# Altium footprint library AM6411AKCGHAALV.PcbLib: 3 footprints
Each footprint in its own frame and in the unit in brackets; x right, y up, seen from the top. Pads: shape width x height; smd on the part's side, far side on the other; paste and mask are expansions set on the pad; w line width, h text height; cw(c..) or ccw(c..) is an arc to the next point about the centre after c.
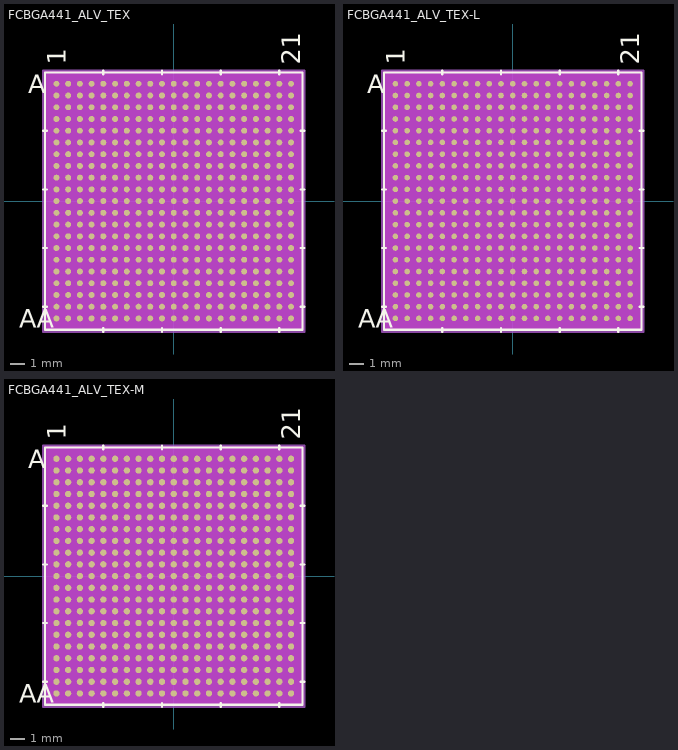
[diagram p0: the footprints below, top view; thin cyan lines are the x and y axes]

## FCBGA441_ALV_TEX [mil]
pads (441):
  round 16 smd paste+0 mask+0: A1(-315,315) A2(-283.5,315) A3(-252,315) A4(-220.5,315) A5(-189,315) A6(-157.5,315) A7(-126,315) A8(-94.5,315) A9(-63,315) A10(-31.5,315) A11(0,315) A12(31.5,315) A13(63,315) A14(94.5,315) A15(126,315) A16(157.5,315) A17(189,315) A18(220.5,315) A19(252,315) A20(283.5,315) A21(315,315) AA1(-315,-315) AA2(-283.5,-315) AA3(-252,-315) AA4(-220.5,-315) AA5(-189,-315) AA6(-157.5,-315) AA7(-126,-315) AA8(-94.5,-315) AA9(-63,-315) AA10(-31.5,-315) AA11(0,-315) AA12(31.5,-315) AA13(63,-315) AA14(94.5,-315) AA15(126,-315) AA16(157.5,-315) AA17(189,-315) AA18(220.5,-315) AA19(252,-315) AA20(283.5,-315) AA21(315,-315) B1(-315,283.5) B2(-283.5,283.5) B3(-252,283.5) B4(-220.5,283.5) B5(-189,283.5) B6(-157.5,283.5) B7(-126,283.5) B8(-94.5,283.5) B9(-63,283.5) B10(-31.5,283.5) B11(0,283.5) B12(31.5,283.5) B13(63,283.5) B14(94.5,283.5) B15(126,283.5) B16(157.5,283.5) B17(189,283.5) B18(220.5,283.5) B19(252,283.5) B20(283.5,283.5) B21(315,283.5) C1(-315,252) C2(-283.5,252) C3(-252,252) C4(-220.5,252) C5(-189,252) C6(-157.5,252) C7(-126,252) C8(-94.5,252) C9(-63,252) C10(-31.5,252) C11(0,252) C12(31.5,252) C13(63,252) C14(94.5,252) C15(126,252) C16(157.5,252) C17(189,252) C18(220.5,252) C19(252,252) C20(283.5,252) C21(315,252) D1(-315,220.5) D2(-283.5,220.5) D3(-252,220.5) D4(-220.5,220.5) D5(-189,220.5) D6(-157.5,220.5) D7(-126,220.5) D8(-94.5,220.5) D9(-63,220.5) D10(-31.5,220.5) D11(0,220.5) D12(31.5,220.5) D13(63,220.5) D14(94.5,220.5) D15(126,220.5) D16(157.5,220.5) D17(189,220.5) D18(220.5,220.5) D19(252,220.5) D20(283.5,220.5) D21(315,220.5) E1(-315,189) E2(-283.5,189) E3(-252,189) E4(-220.5,189) E5(-189,189) E6(-157.5,189) E7(-126,189) E8(-94.5,189) E9(-63,189) E10(-31.5,189) E11(0,189) E12(31.5,189) E13(63,189) E14(94.5,189) E15(126,189) E16(157.5,189) E17(189,189) E18(220.5,189) E19(252,189) E20(283.5,189) E21(315,189) F1(-315,157.5) F2(-283.5,157.5) F3(-252,157.5) F4(-220.5,157.5) F5(-189,157.5) F6(-157.5,157.5) F7(-126,157.5) F8(-94.5,157.5) F9(-63,157.5) F10(-31.5,157.5) F11(0,157.5) F12(31.5,157.5) F13(63,157.5) F14(94.5,157.5) F15(126,157.5) F16(157.5,157.5) F17(189,157.5) F18(220.5,157.5) F19(252,157.5) F20(283.5,157.5) F21(315,157.5) G1(-315,126) G2(-283.5,126) G3(-252,126) G4(-220.5,126) G5(-189,126) G6(-157.5,126) G7(-126,126) G8(-94.5,126) G9(-63,126) G10(-31.5,126) G11(0,126) G12(31.5,126) G13(63,126) G14(94.5,126) G15(126,126) G16(157.5,126) G17(189,126) G18(220.5,126) G19(252,126) G20(283.5,126) G21(315,126) H1(-315,94.5) H2(-283.5,94.5) H3(-252,94.5) H4(-220.5,94.5) H5(-189,94.5) H6(-157.5,94.5) H7(-126,94.5) H8(-94.5,94.5) H9(-63,94.5) H10(-31.5,94.5) H11(0,94.5) H12(31.5,94.5) H13(63,94.5) H14(94.5,94.5) H15(126,94.5) H16(157.5,94.5) H17(189,94.5) H18(220.5,94.5) H19(252,94.5) H20(283.5,94.5) H21(315,94.5) J1(-315,63) J2(-283.5,63) J3(-252,63) J4(-220.5,63) J5(-189,63) J6(-157.5,63) J7(-126,63) J8(-94.5,63) J9(-63,63) J10(-31.5,63) J11(0,63) J12(31.5,63) J13(63,63) J14(94.5,63) J15(126,63) J16(157.5,63) J17(189,63) J18(220.5,63) J19(252,63) J20(283.5,63) J21(315,63) K1(-315,31.5) K2(-283.5,31.5) K3(-252,31.5) K4(-220.5,31.5) K5(-189,31.5) K6(-157.5,31.5) K7(-126,31.5) K8(-94.5,31.5) K9(-63,31.5) K10(-31.5,31.5) K11(0,31.5) K12(31.5,31.5) K13(63,31.5) K14(94.5,31.5) K15(126,31.5) K16(157.5,31.5) K17(189,31.5) K18(220.5,31.5) K19(252,31.5) K20(283.5,31.5) K21(315,31.5) L1(-315,0) L2(-283.5,0) L3(-252,0) L4(-220.5,0) L5(-189,0) L6(-157.5,0) L7(-126,0) L8(-94.5,0) L9(-63,0) L10(-31.5,0) L11(0,0) L12(31.5,0) L13(63,0) L14(94.5,0) L15(126,0) L16(157.5,0) L17(189,0) L18(220.5,0) L19(252,0) L20(283.5,0) L21(315,0) M1(-315,-31.5) M2(-283.5,-31.5) M3(-252,-31.5) M4(-220.5,-31.5) M5(-189,-31.5) M6(-157.5,-31.5) M7(-126,-31.5) M8(-94.5,-31.5) M9(-63,-31.5) M10(-31.5,-31.5) M11(0,-31.5) M12(31.5,-31.5) M13(63,-31.5) M14(94.5,-31.5) M15(126,-31.5) M16(157.5,-31.5) M17(189,-31.5) M18(220.5,-31.5) M19(252,-31.5) M20(283.5,-31.5) M21(315,-31.5) N1(-315,-63) N2(-283.5,-63) N3(-252,-63) N4(-220.5,-63) N5(-189,-63) N6(-157.5,-63) N7(-126,-63) N8(-94.5,-63) N9(-63,-63) N10(-31.5,-63) N11(0,-63) N12(31.5,-63) N13(63,-63) N14(94.5,-63) N15(126,-63) N16(157.5,-63) N17(189,-63) N18(220.5,-63) N19(252,-63) N20(283.5,-63) N21(315,-63) P1(-315,-94.5) P2(-283.5,-94.5) P3(-252,-94.5) P4(-220.5,-94.5) P5(-189,-94.5) P6(-157.5,-94.5) P7(-126,-94.5) P8(-94.5,-94.5) P9(-63,-94.5) P10(-31.5,-94.5) P11(0,-94.5) P12(31.5,-94.5) P13(63,-94.5) P14(94.5,-94.5) P15(126,-94.5) P16(157.5,-94.5) P17(189,-94.5) P18(220.5,-94.5) P19(252,-94.5) P20(283.5,-94.5) P21(315,-94.5) R1(-315,-126) R2(-283.5,-126) R3(-252,-126) R4(-220.5,-126) R5(-189,-126) R6(-157.5,-126) R7(-126,-126) R8(-94.5,-126) R9(-63,-126) R10(-31.5,-126) R11(0,-126) R12(31.5,-126) R13(63,-126) R14(94.5,-126) R15(126,-126) R16(157.5,-126) R17(189,-126) R18(220.5,-126) R19(252,-126) R20(283.5,-126) R21(315,-126) T1(-315,-157.5) T2(-283.5,-157.5) T3(-252,-157.5) T4(-220.5,-157.5) T5(-189,-157.5) T6(-157.5,-157.5) T7(-126,-157.5) T8(-94.5,-157.5) T9(-63,-157.5) T10(-31.5,-157.5) T11(0,-157.5) T12(31.5,-157.5) T13(63,-157.5) T14(94.5,-157.5) T15(126,-157.5) T16(157.5,-157.5) T17(189,-157.5) T18(220.5,-157.5) T19(252,-157.5) T20(283.5,-157.5) T21(315,-157.5) U1(-315,-189) U2(-283.5,-189) U3(-252,-189) U4(-220.5,-189) U5(-189,-189) U6(-157.5,-189) U7(-126,-189) U8(-94.5,-189) U9(-63,-189) U10(-31.5,-189) U11(0,-189) U12(31.5,-189) U13(63,-189) U14(94.5,-189) U15(126,-189) U16(157.5,-189) U17(189,-189) U18(220.5,-189) U19(252,-189) U20(283.5,-189) U21(315,-189) V1(-315,-220.5) V2(-283.5,-220.5) V3(-252,-220.5) V4(-220.5,-220.5) V5(-189,-220.5) V6(-157.5,-220.5) V7(-126,-220.5) V8(-94.5,-220.5) V9(-63,-220.5) V10(-31.5,-220.5) V11(0,-220.5) V12(31.5,-220.5) V13(63,-220.5) V14(94.5,-220.5) V15(126,-220.5) V16(157.5,-220.5) V17(189,-220.5) V18(220.5,-220.5) V19(252,-220.5) V20(283.5,-220.5) V21(315,-220.5) W1(-315,-252) W2(-283.5,-252) W3(-252,-252) W4(-220.5,-252) W5(-189,-252) W6(-157.5,-252) W7(-126,-252) W8(-94.5,-252) W9(-63,-252) W10(-31.5,-252) W11(0,-252) W12(31.5,-252) W13(63,-252) W14(94.5,-252) W15(126,-252) W16(157.5,-252) W17(189,-252) W18(220.5,-252) W19(252,-252) W20(283.5,-252) W21(315,-252) Y1(-315,-283.5) Y2(-283.5,-283.5) Y3(-252,-283.5) Y4(-220.5,-283.5) Y5(-189,-283.5) Y6(-157.5,-283.5) Y7(-126,-283.5) Y8(-94.5,-283.5) Y9(-63,-283.5) Y10(-31.5,-283.5) Y11(0,-283.5) Y12(31.5,-283.5) Y13(63,-283.5) Y14(94.5,-283.5) Y15(126,-283.5) Y16(157.5,-283.5) Y17(189,-283.5) Y18(220.5,-283.5) Y19(252,-283.5) Y20(283.5,-283.5) Y21(315,-283.5)
Top Overlay:
  lines w6: -350.5,-283.5 -340.5,-283.5 ; -350.5,-126 -340.5,-126 ; -350.5,31.5 -340.5,31.5 ; -350.5,189 -340.5,189 ; -189,-350.5 -189,-340.5 ; -189,340.5 -189,350.5 ; -31.5,-350.5 -31.5,-340.5 ; -31.5,340.5 -31.5,350.5 ; 126,-350.5 126,-340.5 ; 126,340.5 126,350.5 ; 283.5,-350.5 283.5,-340.5 ; 283.5,340.5 283.5,350.5 ; 340.5,-283.5 350.5,-283.5 ; 340.5,-126 350.5,-126 ; 340.5,31.5 350.5,31.5 ; 340.5,189 350.5,189 ; -345.5,-345.5 345.5,-345.5 345.5,345.5 -345.5,345.5 -345.5,-345.5
  text "A" at -390.5,290 h50
  text "AA" at -415.5,-340 h50
  text "1" at -290,365.5 h50
  text "21" at 340,365.5 h50
Bottom Overlay:
  text "A" at -365.5,290 h50
  text "AA" at -365.5,-340 h50
  text "1" at -340,365.5 h50
  text "21" at 290,365.5 h50
Keep-Out Layer:
  region: -348.25,-348.25 -348.25,348.25 348.25,348.25 348.25,-348.25
Mechanical 13:
  lines w1: -340.5,324.75 -324.75,340.5 ; -340.5,-340.5 340.5,-340.5 340.5,340.5 -340.5,340.5 -340.5,-340.5
  text "A" at -390.5,290 h50
  text "AA" at -415.5,-340 h50
  text "1" at -290,365.5 h50
  text "21" at 340,365.5 h50
Mechanical 15:
  region: 350.5,-350.5 -350.5,-350.5 -350.5,350.5 350.5,350.5
  lines w6: -350.5,-350.5 -350.5,350.5 350.5,350.5 350.5,-350.5 -350.5,-350.5
3D body "FCBGA441_ALV_TEX.step": height 104.09, standoff 0, extent -340.51,-340.51 340.51,340.51

## FCBGA441_ALV_TEX-L [mil]
pads (441):
  round 15 smd paste+0 mask+0: A1(-315,315) A2(-283.5,315) A3(-252,315) A4(-220.5,315) A5(-189,315) A6(-157.5,315) A7(-126,315) A8(-94.5,315) A9(-63,315) A10(-31.5,315) A11(0,315) A12(31.5,315) A13(63,315) A14(94.5,315) A15(126,315) A16(157.5,315) A17(189,315) A18(220.5,315) A19(252,315) A20(283.5,315) A21(315,315) AA1(-315,-315) AA2(-283.5,-315) AA3(-252,-315) AA4(-220.5,-315) AA5(-189,-315) AA6(-157.5,-315) AA7(-126,-315) AA8(-94.5,-315) AA9(-63,-315) AA10(-31.5,-315) AA11(0,-315) AA12(31.5,-315) AA13(63,-315) AA14(94.5,-315) AA15(126,-315) AA16(157.5,-315) AA17(189,-315) AA18(220.5,-315) AA19(252,-315) AA20(283.5,-315) AA21(315,-315) B1(-315,283.5) B2(-283.5,283.5) B3(-252,283.5) B4(-220.5,283.5) B5(-189,283.5) B6(-157.5,283.5) B7(-126,283.5) B8(-94.5,283.5) B9(-63,283.5) B10(-31.5,283.5) B11(0,283.5) B12(31.5,283.5) B13(63,283.5) B14(94.5,283.5) B15(126,283.5) B16(157.5,283.5) B17(189,283.5) B18(220.5,283.5) B19(252,283.5) B20(283.5,283.5) B21(315,283.5) C1(-315,252) C2(-283.5,252) C3(-252,252) C4(-220.5,252) C5(-189,252) C6(-157.5,252) C7(-126,252) C8(-94.5,252) C9(-63,252) C10(-31.5,252) C11(0,252) C12(31.5,252) C13(63,252) C14(94.5,252) C15(126,252) C16(157.5,252) C17(189,252) C18(220.5,252) C19(252,252) C20(283.5,252) C21(315,252) D1(-315,220.5) D2(-283.5,220.5) D3(-252,220.5) D4(-220.5,220.5) D5(-189,220.5) D6(-157.5,220.5) D7(-126,220.5) D8(-94.5,220.5) D9(-63,220.5) D10(-31.5,220.5) D11(0,220.5) D12(31.5,220.5) D13(63,220.5) D14(94.5,220.5) D15(126,220.5) D16(157.5,220.5) D17(189,220.5) D18(220.5,220.5) D19(252,220.5) D20(283.5,220.5) D21(315,220.5) E1(-315,189) E2(-283.5,189) E3(-252,189) E4(-220.5,189) E5(-189,189) E6(-157.5,189) E7(-126,189) E8(-94.5,189) E9(-63,189) E10(-31.5,189) E11(0,189) E12(31.5,189) E13(63,189) E14(94.5,189) E15(126,189) E16(157.5,189) E17(189,189) E18(220.5,189) E19(252,189) E20(283.5,189) E21(315,189) F1(-315,157.5) F2(-283.5,157.5) F3(-252,157.5) F4(-220.5,157.5) F5(-189,157.5) F6(-157.5,157.5) F7(-126,157.5) F8(-94.5,157.5) F9(-63,157.5) F10(-31.5,157.5) F11(0,157.5) F12(31.5,157.5) F13(63,157.5) F14(94.5,157.5) F15(126,157.5) F16(157.5,157.5) F17(189,157.5) F18(220.5,157.5) F19(252,157.5) F20(283.5,157.5) F21(315,157.5) G1(-315,126) G2(-283.5,126) G3(-252,126) G4(-220.5,126) G5(-189,126) G6(-157.5,126) G7(-126,126) G8(-94.5,126) G9(-63,126) G10(-31.5,126) G11(0,126) G12(31.5,126) G13(63,126) G14(94.5,126) G15(126,126) G16(157.5,126) G17(189,126) G18(220.5,126) G19(252,126) G20(283.5,126) G21(315,126) H1(-315,94.5) H2(-283.5,94.5) H3(-252,94.5) H4(-220.5,94.5) H5(-189,94.5) H6(-157.5,94.5) H7(-126,94.5) H8(-94.5,94.5) H9(-63,94.5) H10(-31.5,94.5) H11(0,94.5) H12(31.5,94.5) H13(63,94.5) H14(94.5,94.5) H15(126,94.5) H16(157.5,94.5) H17(189,94.5) H18(220.5,94.5) H19(252,94.5) H20(283.5,94.5) H21(315,94.5) J1(-315,63) J2(-283.5,63) J3(-252,63) J4(-220.5,63) J5(-189,63) J6(-157.5,63) J7(-126,63) J8(-94.5,63) J9(-63,63) J10(-31.5,63) J11(0,63) J12(31.5,63) J13(63,63) J14(94.5,63) J15(126,63) J16(157.5,63) J17(189,63) J18(220.5,63) J19(252,63) J20(283.5,63) J21(315,63) K1(-315,31.5) K2(-283.5,31.5) K3(-252,31.5) K4(-220.5,31.5) K5(-189,31.5) K6(-157.5,31.5) K7(-126,31.5) K8(-94.5,31.5) K9(-63,31.5) K10(-31.5,31.5) K11(0,31.5) K12(31.5,31.5) K13(63,31.5) K14(94.5,31.5) K15(126,31.5) K16(157.5,31.5) K17(189,31.5) K18(220.5,31.5) K19(252,31.5) K20(283.5,31.5) K21(315,31.5) L1(-315,0) L2(-283.5,0) L3(-252,0) L4(-220.5,0) L5(-189,0) L6(-157.5,0) L7(-126,0) L8(-94.5,0) L9(-63,0) L10(-31.5,0) L11(0,0) L12(31.5,0) L13(63,0) L14(94.5,0) L15(126,0) L16(157.5,0) L17(189,0) L18(220.5,0) L19(252,0) L20(283.5,0) L21(315,0) M1(-315,-31.5) M2(-283.5,-31.5) M3(-252,-31.5) M4(-220.5,-31.5) M5(-189,-31.5) M6(-157.5,-31.5) M7(-126,-31.5) M8(-94.5,-31.5) M9(-63,-31.5) M10(-31.5,-31.5) M11(0,-31.5) M12(31.5,-31.5) M13(63,-31.5) M14(94.5,-31.5) M15(126,-31.5) M16(157.5,-31.5) M17(189,-31.5) M18(220.5,-31.5) M19(252,-31.5) M20(283.5,-31.5) M21(315,-31.5) N1(-315,-63) N2(-283.5,-63) N3(-252,-63) N4(-220.5,-63) N5(-189,-63) N6(-157.5,-63) N7(-126,-63) N8(-94.5,-63) N9(-63,-63) N10(-31.5,-63) N11(0,-63) N12(31.5,-63) N13(63,-63) N14(94.5,-63) N15(126,-63) N16(157.5,-63) N17(189,-63) N18(220.5,-63) N19(252,-63) N20(283.5,-63) N21(315,-63) P1(-315,-94.5) P2(-283.5,-94.5) P3(-252,-94.5) P4(-220.5,-94.5) P5(-189,-94.5) P6(-157.5,-94.5) P7(-126,-94.5) P8(-94.5,-94.5) P9(-63,-94.5) P10(-31.5,-94.5) P11(0,-94.5) P12(31.5,-94.5) P13(63,-94.5) P14(94.5,-94.5) P15(126,-94.5) P16(157.5,-94.5) P17(189,-94.5) P18(220.5,-94.5) P19(252,-94.5) P20(283.5,-94.5) P21(315,-94.5) R1(-315,-126) R2(-283.5,-126) R3(-252,-126) R4(-220.5,-126) R5(-189,-126) R6(-157.5,-126) R7(-126,-126) R8(-94.5,-126) R9(-63,-126) R10(-31.5,-126) R11(0,-126) R12(31.5,-126) R13(63,-126) R14(94.5,-126) R15(126,-126) R16(157.5,-126) R17(189,-126) R18(220.5,-126) R19(252,-126) R20(283.5,-126) R21(315,-126) T1(-315,-157.5) T2(-283.5,-157.5) T3(-252,-157.5) T4(-220.5,-157.5) T5(-189,-157.5) T6(-157.5,-157.5) T7(-126,-157.5) T8(-94.5,-157.5) T9(-63,-157.5) T10(-31.5,-157.5) T11(0,-157.5) T12(31.5,-157.5) T13(63,-157.5) T14(94.5,-157.5) T15(126,-157.5) T16(157.5,-157.5) T17(189,-157.5) T18(220.5,-157.5) T19(252,-157.5) T20(283.5,-157.5) T21(315,-157.5) U1(-315,-189) U2(-283.5,-189) U3(-252,-189) U4(-220.5,-189) U5(-189,-189) U6(-157.5,-189) U7(-126,-189) U8(-94.5,-189) U9(-63,-189) U10(-31.5,-189) U11(0,-189) U12(31.5,-189) U13(63,-189) U14(94.5,-189) U15(126,-189) U16(157.5,-189) U17(189,-189) U18(220.5,-189) U19(252,-189) U20(283.5,-189) U21(315,-189) V1(-315,-220.5) V2(-283.5,-220.5) V3(-252,-220.5) V4(-220.5,-220.5) V5(-189,-220.5) V6(-157.5,-220.5) V7(-126,-220.5) V8(-94.5,-220.5) V9(-63,-220.5) V10(-31.5,-220.5) V11(0,-220.5) V12(31.5,-220.5) V13(63,-220.5) V14(94.5,-220.5) V15(126,-220.5) V16(157.5,-220.5) V17(189,-220.5) V18(220.5,-220.5) V19(252,-220.5) V20(283.5,-220.5) V21(315,-220.5) W1(-315,-252) W2(-283.5,-252) W3(-252,-252) W4(-220.5,-252) W5(-189,-252) W6(-157.5,-252) W7(-126,-252) W8(-94.5,-252) W9(-63,-252) W10(-31.5,-252) W11(0,-252) W12(31.5,-252) W13(63,-252) W14(94.5,-252) W15(126,-252) W16(157.5,-252) W17(189,-252) W18(220.5,-252) W19(252,-252) W20(283.5,-252) W21(315,-252) Y1(-315,-283.5) Y2(-283.5,-283.5) Y3(-252,-283.5) Y4(-220.5,-283.5) Y5(-189,-283.5) Y6(-157.5,-283.5) Y7(-126,-283.5) Y8(-94.5,-283.5) Y9(-63,-283.5) Y10(-31.5,-283.5) Y11(0,-283.5) Y12(31.5,-283.5) Y13(63,-283.5) Y14(94.5,-283.5) Y15(126,-283.5) Y16(157.5,-283.5) Y17(189,-283.5) Y18(220.5,-283.5) Y19(252,-283.5) Y20(283.5,-283.5) Y21(315,-283.5)
Top Overlay:
  lines w6: -350.5,-283.5 -340.5,-283.5 ; -350.5,-126 -340.5,-126 ; -350.5,31.5 -340.5,31.5 ; -350.5,189 -340.5,189 ; -189,-350.5 -189,-340.5 ; -189,340.5 -189,350.5 ; -31.5,-350.5 -31.5,-340.5 ; -31.5,340.5 -31.5,350.5 ; 126,-350.5 126,-340.5 ; 126,340.5 126,350.5 ; 283.5,-350.5 283.5,-340.5 ; 283.5,340.5 283.5,350.5 ; 340.5,-283.5 350.5,-283.5 ; 340.5,-126 350.5,-126 ; 340.5,31.5 350.5,31.5 ; 340.5,189 350.5,189 ; -345.5,-345.5 345.5,-345.5 345.5,345.5 -345.5,345.5 -345.5,-345.5
  text "A" at -390.5,290 h50
  text "AA" at -415.5,-340 h50
  text "1" at -290,365.5 h50
  text "21" at 340,365.5 h50
Bottom Overlay:
  text "A" at -365.5,290 h50
  text "AA" at -365.5,-340 h50
  text "1" at -340,365.5 h50
  text "21" at 290,365.5 h50
Keep-Out Layer:
  region: -348.25,-348.25 -348.25,348.25 348.25,348.25 348.25,-348.25
Mechanical 13:
  lines w1: -340.5,324.75 -324.75,340.5 ; -340.5,-340.5 340.5,-340.5 340.5,340.5 -340.5,340.5 -340.5,-340.5
  text "A" at -390.5,290 h50
  text "AA" at -415.5,-340 h50
  text "1" at -290,365.5 h50
  text "21" at 340,365.5 h50
Mechanical 15:
  region: 350.5,-350.5 -350.5,-350.5 -350.5,350.5 350.5,350.5
  lines w6: -350.5,-350.5 -350.5,350.5 350.5,350.5 350.5,-350.5 -350.5,-350.5
3D body "FCBGA441_ALV_TEX.step": height 104.09, standoff 0, extent -340.51,-340.51 340.51,340.51

## FCBGA441_ALV_TEX-M [mil]
pads (441):
  round 17 smd paste+0 mask+0: A1(-315,315) A2(-283.5,315) A3(-252,315) A4(-220.5,315) A5(-189,315) A6(-157.5,315) A7(-126,315) A8(-94.5,315) A9(-63,315) A10(-31.5,315) A11(0,315) A12(31.5,315) A13(63,315) A14(94.5,315) A15(126,315) A16(157.5,315) A17(189,315) A18(220.5,315) A19(252,315) A20(283.5,315) A21(315,315) AA1(-315,-315) AA2(-283.5,-315) AA3(-252,-315) AA4(-220.5,-315) AA5(-189,-315) AA6(-157.5,-315) AA7(-126,-315) AA8(-94.5,-315) AA9(-63,-315) AA10(-31.5,-315) AA11(0,-315) AA12(31.5,-315) AA13(63,-315) AA14(94.5,-315) AA15(126,-315) AA16(157.5,-315) AA17(189,-315) AA18(220.5,-315) AA19(252,-315) AA20(283.5,-315) AA21(315,-315) B1(-315,283.5) B2(-283.5,283.5) B3(-252,283.5) B4(-220.5,283.5) B5(-189,283.5) B6(-157.5,283.5) B7(-126,283.5) B8(-94.5,283.5) B9(-63,283.5) B10(-31.5,283.5) B11(0,283.5) B12(31.5,283.5) B13(63,283.5) B14(94.5,283.5) B15(126,283.5) B16(157.5,283.5) B17(189,283.5) B18(220.5,283.5) B19(252,283.5) B20(283.5,283.5) B21(315,283.5) C1(-315,252) C2(-283.5,252) C3(-252,252) C4(-220.5,252) C5(-189,252) C6(-157.5,252) C7(-126,252) C8(-94.5,252) C9(-63,252) C10(-31.5,252) C11(0,252) C12(31.5,252) C13(63,252) C14(94.5,252) C15(126,252) C16(157.5,252) C17(189,252) C18(220.5,252) C19(252,252) C20(283.5,252) C21(315,252) D1(-315,220.5) D2(-283.5,220.5) D3(-252,220.5) D4(-220.5,220.5) D5(-189,220.5) D6(-157.5,220.5) D7(-126,220.5) D8(-94.5,220.5) D9(-63,220.5) D10(-31.5,220.5) D11(0,220.5) D12(31.5,220.5) D13(63,220.5) D14(94.5,220.5) D15(126,220.5) D16(157.5,220.5) D17(189,220.5) D18(220.5,220.5) D19(252,220.5) D20(283.5,220.5) D21(315,220.5) E1(-315,189) E2(-283.5,189) E3(-252,189) E4(-220.5,189) E5(-189,189) E6(-157.5,189) E7(-126,189) E8(-94.5,189) E9(-63,189) E10(-31.5,189) E11(0,189) E12(31.5,189) E13(63,189) E14(94.5,189) E15(126,189) E16(157.5,189) E17(189,189) E18(220.5,189) E19(252,189) E20(283.5,189) E21(315,189) F1(-315,157.5) F2(-283.5,157.5) F3(-252,157.5) F4(-220.5,157.5) F5(-189,157.5) F6(-157.5,157.5) F7(-126,157.5) F8(-94.5,157.5) F9(-63,157.5) F10(-31.5,157.5) F11(0,157.5) F12(31.5,157.5) F13(63,157.5) F14(94.5,157.5) F15(126,157.5) F16(157.5,157.5) F17(189,157.5) F18(220.5,157.5) F19(252,157.5) F20(283.5,157.5) F21(315,157.5) G1(-315,126) G2(-283.5,126) G3(-252,126) G4(-220.5,126) G5(-189,126) G6(-157.5,126) G7(-126,126) G8(-94.5,126) G9(-63,126) G10(-31.5,126) G11(0,126) G12(31.5,126) G13(63,126) G14(94.5,126) G15(126,126) G16(157.5,126) G17(189,126) G18(220.5,126) G19(252,126) G20(283.5,126) G21(315,126) H1(-315,94.5) H2(-283.5,94.5) H3(-252,94.5) H4(-220.5,94.5) H5(-189,94.5) H6(-157.5,94.5) H7(-126,94.5) H8(-94.5,94.5) H9(-63,94.5) H10(-31.5,94.5) H11(0,94.5) H12(31.5,94.5) H13(63,94.5) H14(94.5,94.5) H15(126,94.5) H16(157.5,94.5) H17(189,94.5) H18(220.5,94.5) H19(252,94.5) H20(283.5,94.5) H21(315,94.5) J1(-315,63) J2(-283.5,63) J3(-252,63) J4(-220.5,63) J5(-189,63) J6(-157.5,63) J7(-126,63) J8(-94.5,63) J9(-63,63) J10(-31.5,63) J11(0,63) J12(31.5,63) J13(63,63) J14(94.5,63) J15(126,63) J16(157.5,63) J17(189,63) J18(220.5,63) J19(252,63) J20(283.5,63) J21(315,63) K1(-315,31.5) K2(-283.5,31.5) K3(-252,31.5) K4(-220.5,31.5) K5(-189,31.5) K6(-157.5,31.5) K7(-126,31.5) K8(-94.5,31.5) K9(-63,31.5) K10(-31.5,31.5) K11(0,31.5) K12(31.5,31.5) K13(63,31.5) K14(94.5,31.5) K15(126,31.5) K16(157.5,31.5) K17(189,31.5) K18(220.5,31.5) K19(252,31.5) K20(283.5,31.5) K21(315,31.5) L1(-315,0) L2(-283.5,0) L3(-252,0) L4(-220.5,0) L5(-189,0) L6(-157.5,0) L7(-126,0) L8(-94.5,0) L9(-63,0) L10(-31.5,0) L11(0,0) L12(31.5,0) L13(63,0) L14(94.5,0) L15(126,0) L16(157.5,0) L17(189,0) L18(220.5,0) L19(252,0) L20(283.5,0) L21(315,0) M1(-315,-31.5) M2(-283.5,-31.5) M3(-252,-31.5) M4(-220.5,-31.5) M5(-189,-31.5) M6(-157.5,-31.5) M7(-126,-31.5) M8(-94.5,-31.5) M9(-63,-31.5) M10(-31.5,-31.5) M11(0,-31.5) M12(31.5,-31.5) M13(63,-31.5) M14(94.5,-31.5) M15(126,-31.5) M16(157.5,-31.5) M17(189,-31.5) M18(220.5,-31.5) M19(252,-31.5) M20(283.5,-31.5) M21(315,-31.5) N1(-315,-63) N2(-283.5,-63) N3(-252,-63) N4(-220.5,-63) N5(-189,-63) N6(-157.5,-63) N7(-126,-63) N8(-94.5,-63) N9(-63,-63) N10(-31.5,-63) N11(0,-63) N12(31.5,-63) N13(63,-63) N14(94.5,-63) N15(126,-63) N16(157.5,-63) N17(189,-63) N18(220.5,-63) N19(252,-63) N20(283.5,-63) N21(315,-63) P1(-315,-94.5) P2(-283.5,-94.5) P3(-252,-94.5) P4(-220.5,-94.5) P5(-189,-94.5) P6(-157.5,-94.5) P7(-126,-94.5) P8(-94.5,-94.5) P9(-63,-94.5) P10(-31.5,-94.5) P11(0,-94.5) P12(31.5,-94.5) P13(63,-94.5) P14(94.5,-94.5) P15(126,-94.5) P16(157.5,-94.5) P17(189,-94.5) P18(220.5,-94.5) P19(252,-94.5) P20(283.5,-94.5) P21(315,-94.5) R1(-315,-126) R2(-283.5,-126) R3(-252,-126) R4(-220.5,-126) R5(-189,-126) R6(-157.5,-126) R7(-126,-126) R8(-94.5,-126) R9(-63,-126) R10(-31.5,-126) R11(0,-126) R12(31.5,-126) R13(63,-126) R14(94.5,-126) R15(126,-126) R16(157.5,-126) R17(189,-126) R18(220.5,-126) R19(252,-126) R20(283.5,-126) R21(315,-126) T1(-315,-157.5) T2(-283.5,-157.5) T3(-252,-157.5) T4(-220.5,-157.5) T5(-189,-157.5) T6(-157.5,-157.5) T7(-126,-157.5) T8(-94.5,-157.5) T9(-63,-157.5) T10(-31.5,-157.5) T11(0,-157.5) T12(31.5,-157.5) T13(63,-157.5) T14(94.5,-157.5) T15(126,-157.5) T16(157.5,-157.5) T17(189,-157.5) T18(220.5,-157.5) T19(252,-157.5) T20(283.5,-157.5) T21(315,-157.5) U1(-315,-189) U2(-283.5,-189) U3(-252,-189) U4(-220.5,-189) U5(-189,-189) U6(-157.5,-189) U7(-126,-189) U8(-94.5,-189) U9(-63,-189) U10(-31.5,-189) U11(0,-189) U12(31.5,-189) U13(63,-189) U14(94.5,-189) U15(126,-189) U16(157.5,-189) U17(189,-189) U18(220.5,-189) U19(252,-189) U20(283.5,-189) U21(315,-189) V1(-315,-220.5) V2(-283.5,-220.5) V3(-252,-220.5) V4(-220.5,-220.5) V5(-189,-220.5) V6(-157.5,-220.5) V7(-126,-220.5) V8(-94.5,-220.5) V9(-63,-220.5) V10(-31.5,-220.5) V11(0,-220.5) V12(31.5,-220.5) V13(63,-220.5) V14(94.5,-220.5) V15(126,-220.5) V16(157.5,-220.5) V17(189,-220.5) V18(220.5,-220.5) V19(252,-220.5) V20(283.5,-220.5) V21(315,-220.5) W1(-315,-252) W2(-283.5,-252) W3(-252,-252) W4(-220.5,-252) W5(-189,-252) W6(-157.5,-252) W7(-126,-252) W8(-94.5,-252) W9(-63,-252) W10(-31.5,-252) W11(0,-252) W12(31.5,-252) W13(63,-252) W14(94.5,-252) W15(126,-252) W16(157.5,-252) W17(189,-252) W18(220.5,-252) W19(252,-252) W20(283.5,-252) W21(315,-252) Y1(-315,-283.5) Y2(-283.5,-283.5) Y3(-252,-283.5) Y4(-220.5,-283.5) Y5(-189,-283.5) Y6(-157.5,-283.5) Y7(-126,-283.5) Y8(-94.5,-283.5) Y9(-63,-283.5) Y10(-31.5,-283.5) Y11(0,-283.5) Y12(31.5,-283.5) Y13(63,-283.5) Y14(94.5,-283.5) Y15(126,-283.5) Y16(157.5,-283.5) Y17(189,-283.5) Y18(220.5,-283.5) Y19(252,-283.5) Y20(283.5,-283.5) Y21(315,-283.5)
Top Overlay:
  lines w6: -350.5,-283.5 -340.5,-283.5 ; -350.5,-126 -340.5,-126 ; -350.5,31.5 -340.5,31.5 ; -350.5,189 -340.5,189 ; -189,-350.5 -189,-340.5 ; -189,340.5 -189,350.5 ; -31.5,-350.5 -31.5,-340.5 ; -31.5,340.5 -31.5,350.5 ; 126,-350.5 126,-340.5 ; 126,340.5 126,350.5 ; 283.5,-350.5 283.5,-340.5 ; 283.5,340.5 283.5,350.5 ; 340.5,-283.5 350.5,-283.5 ; 340.5,-126 350.5,-126 ; 340.5,31.5 350.5,31.5 ; 340.5,189 350.5,189 ; -345.5,-345.5 345.5,-345.5 345.5,345.5 -345.5,345.5 -345.5,-345.5
  text "A" at -390.5,290 h50
  text "AA" at -415.5,-340 h50
  text "1" at -290,365.5 h50
  text "21" at 340,365.5 h50
Bottom Overlay:
  text "A" at -365.5,290 h50
  text "AA" at -365.5,-340 h50
  text "1" at -340,365.5 h50
  text "21" at 290,365.5 h50
Keep-Out Layer:
  region: -348.25,-348.25 -348.25,348.25 348.25,348.25 348.25,-348.25
Mechanical 13:
  lines w1: -340.5,324.75 -324.75,340.5 ; -340.5,-340.5 340.5,-340.5 340.5,340.5 -340.5,340.5 -340.5,-340.5
  text "A" at -390.5,290 h50
  text "AA" at -415.5,-340 h50
  text "1" at -290,365.5 h50
  text "21" at 340,365.5 h50
Mechanical 15:
  region: 350.5,-350.5 -350.5,-350.5 -350.5,350.5 350.5,350.5
  lines w6: -350.5,-350.5 -350.5,350.5 350.5,350.5 350.5,-350.5 -350.5,-350.5
3D body "FCBGA441_ALV_TEX.step": height 104.09, standoff 0, extent -340.51,-340.51 340.51,340.51